# Altium footprint library AMP Footprints.PcbLib: 903 footprints (part 43 of 58)
Each footprint in its own frame and in the unit in brackets; x right, y up, seen from the top. Pads: shape width x height; smd on the part's side, far side on the other; paste and mask are expansions set on the pad; w line width, h text height; cw(c..) or ccw(c..) is an arc to the next point about the centre after c.
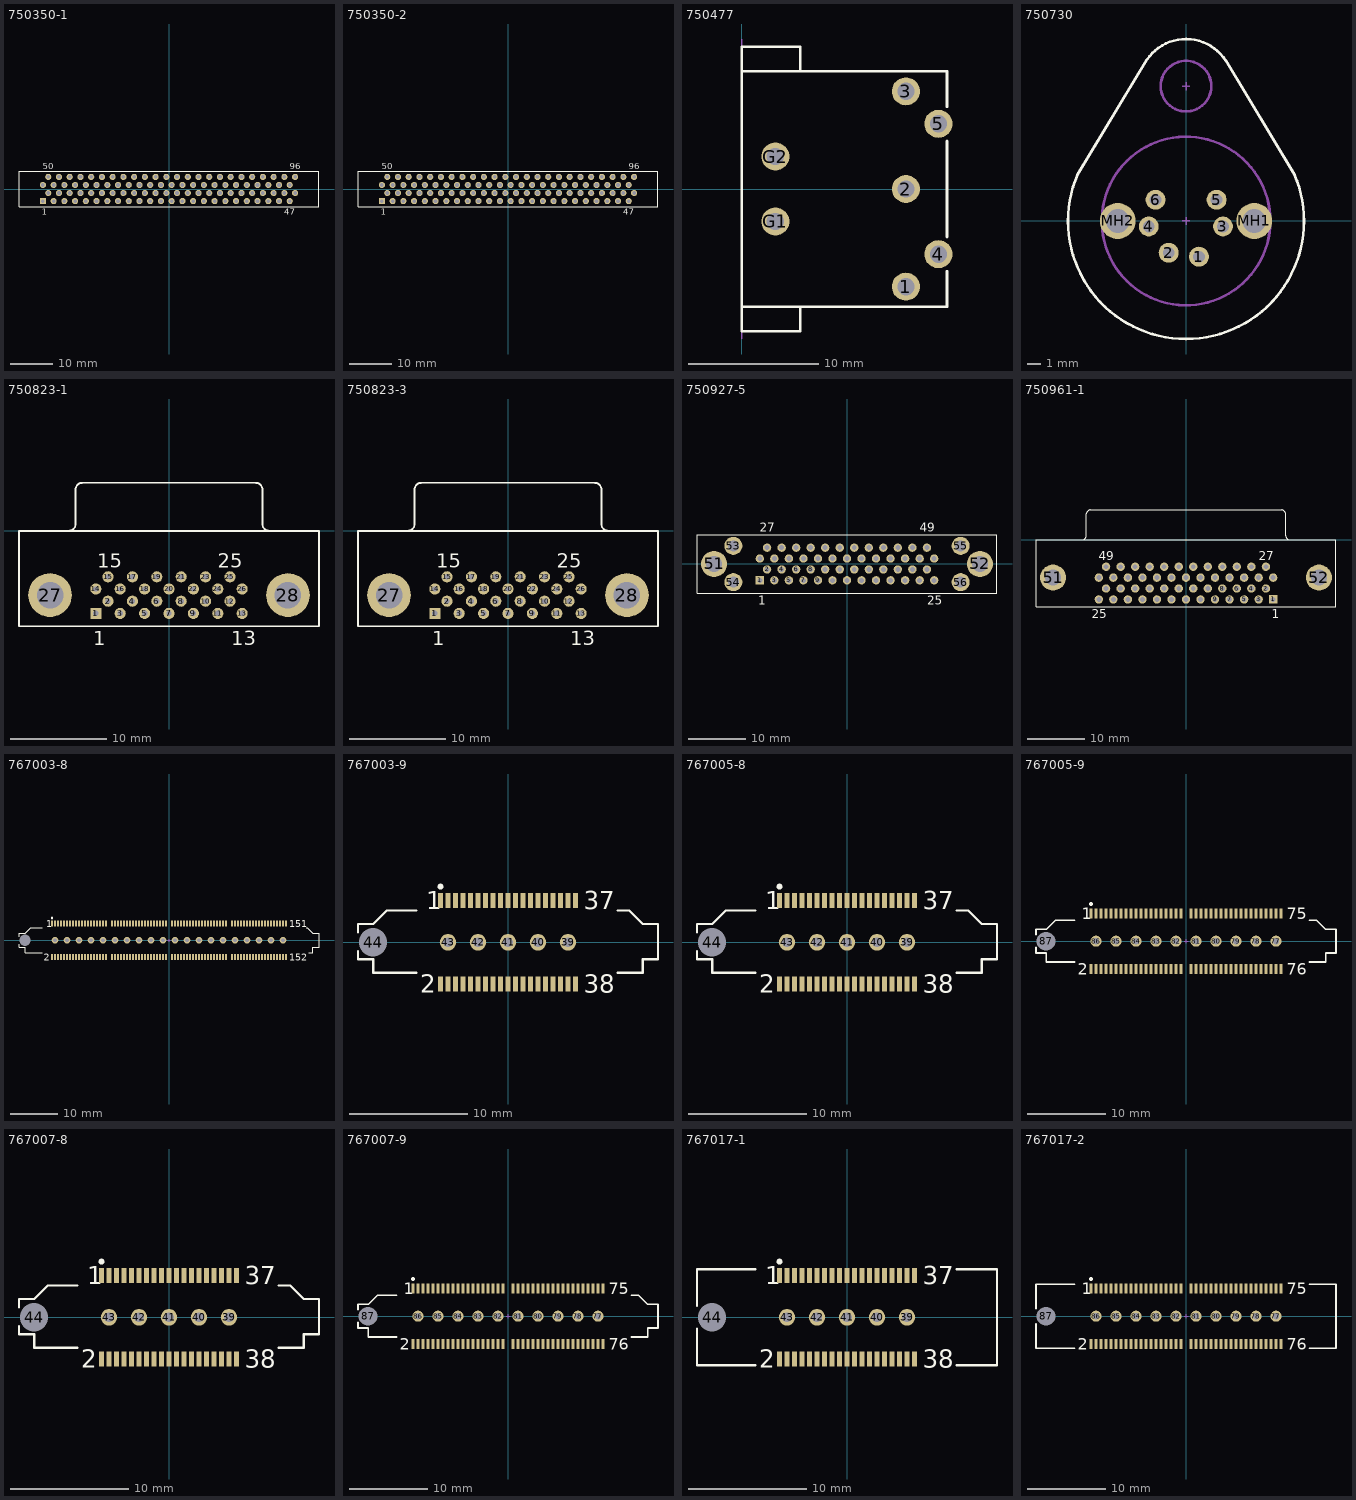
[diagram p42: the footprints below, top view; thin cyan lines are the x and y axes]

## 750350-1 [mm] "Connector; D Subminiature 050 Series; 96 Position; Vertical"
height 14.58
pads (96):
  rect 1.46x1.46 hole 0.86: 1(-29.845,-2.857)
  round 1.46 hole 0.86: 2(-28.575,-0.953) 3(-27.305,-2.857) 4(-26.035,-0.953) 5(-24.765,-2.857) 6(-23.495,-0.953) 7(-22.225,-2.857) 8(-20.955,-0.953) 9(-19.685,-2.857) 10(-18.415,-0.953) 11(-17.145,-2.857) 12(-15.875,-0.953) 13(-14.605,-2.857) 14(-13.335,-0.953) 15(-12.065,-2.857) 16(-10.795,-0.953) 17(-9.525,-2.857) 18(-8.255,-0.953) 19(-6.985,-2.857) 20(-5.715,-0.953) 21(-4.445,-2.857) 22(-3.175,-0.953) 23(-1.905,-2.857) 24(-0.635,-0.953) 25(0.635,-2.857) 26(1.905,-0.953) 27(3.175,-2.857) 28(4.445,-0.953) 29(5.715,-2.857) 30(6.985,-0.953) 31(8.255,-2.857) 32(9.525,-0.953) 33(10.795,-2.857) 34(12.065,-0.953) 35(13.335,-2.857) 36(14.605,-0.953) 37(15.875,-2.857) 38(17.145,-0.953) 39(18.415,-2.857) 40(19.685,-0.953) 41(20.955,-2.857) 42(22.225,-0.953) 43(23.495,-2.857) 44(24.765,-0.953) 45(26.035,-2.857) 46(27.305,-0.953) 47(28.575,-2.857) 48(29.845,-0.953) 49(-29.845,0.953) 50(-28.575,2.857) 51(-27.305,0.953) 52(-26.035,2.857) 53(-24.765,0.953) 54(-23.495,2.857) 55(-22.225,0.953) 56(-20.955,2.857) 57(-19.685,0.953) 58(-18.415,2.857) 59(-17.145,0.953) 60(-15.875,2.857) 61(-14.605,0.953) 62(-13.335,2.857) 63(-12.065,0.953) 64(-10.795,2.857) 65(-9.525,0.953) 66(-8.255,2.857) 67(-6.985,0.953) 68(-5.715,2.857) 69(-4.445,0.953) 70(-3.175,2.857) 71(-1.905,0.953) 72(-0.635,2.857) 73(0.635,0.953) 74(1.905,2.857) 75(3.175,0.953) 76(4.445,2.857) 77(5.715,0.953) 78(6.985,2.857) 79(8.255,0.953) 80(9.525,2.857) 81(10.795,0.953) 82(12.065,2.857) 83(13.335,0.953) 84(14.605,2.857) 85(15.875,0.953) 86(17.145,2.857) 87(18.415,0.953) 88(19.685,2.857) 89(20.955,0.953) 90(22.225,2.857) 91(23.495,0.953) 92(24.765,2.857) 93(26.035,0.953) 94(27.305,2.857) 95(28.575,0.953) 96(29.845,2.857)
Top Overlay:
  lines w0.2: -35.5,-4.157 35.5,-4.157 35.5,4.157 -35.5,4.157 -35.5,-4.157
  text "47" at 27.325,-6.132 h1.5
  text "50" at -29.825,4.633 h1.5
  text "96" at 28.595,4.633 h1.5
  text "1" at -30.095,-6.132 h1.5

## 750350-2 [mm] "Connector; D Subminiature 050 Series; 96 Position; Vertical"
height 14.58
pads (96):
  rect 1.46x1.46 hole 0.86: 1(-29.845,-2.857)
  round 1.46 hole 0.86: 2(-28.575,-0.953) 3(-27.305,-2.857) 4(-26.035,-0.953) 5(-24.765,-2.857) 6(-23.495,-0.953) 7(-22.225,-2.857) 8(-20.955,-0.953) 9(-19.685,-2.857) 10(-18.415,-0.953) 11(-17.145,-2.857) 12(-15.875,-0.953) 13(-14.605,-2.857) 14(-13.335,-0.953) 15(-12.065,-2.857) 16(-10.795,-0.953) 17(-9.525,-2.857) 18(-8.255,-0.953) 19(-6.985,-2.857) 20(-5.715,-0.953) 21(-4.445,-2.857) 22(-3.175,-0.953) 23(-1.905,-2.857) 24(-0.635,-0.953) 25(0.635,-2.857) 26(1.905,-0.953) 27(3.175,-2.857) 28(4.445,-0.953) 29(5.715,-2.857) 30(6.985,-0.953) 31(8.255,-2.857) 32(9.525,-0.953) 33(10.795,-2.857) 34(12.065,-0.953) 35(13.335,-2.857) 36(14.605,-0.953) 37(15.875,-2.857) 38(17.145,-0.953) 39(18.415,-2.857) 40(19.685,-0.953) 41(20.955,-2.857) 42(22.225,-0.953) 43(23.495,-2.857) 44(24.765,-0.953) 45(26.035,-2.857) 46(27.305,-0.953) 47(28.575,-2.857) 48(29.845,-0.953) 49(-29.845,0.953) 50(-28.575,2.857) 51(-27.305,0.953) 52(-26.035,2.857) 53(-24.765,0.953) 54(-23.495,2.857) 55(-22.225,0.953) 56(-20.955,2.857) 57(-19.685,0.953) 58(-18.415,2.857) 59(-17.145,0.953) 60(-15.875,2.857) 61(-14.605,0.953) 62(-13.335,2.857) 63(-12.065,0.953) 64(-10.795,2.857) 65(-9.525,0.953) 66(-8.255,2.857) 67(-6.985,0.953) 68(-5.715,2.857) 69(-4.445,0.953) 70(-3.175,2.857) 71(-1.905,0.953) 72(-0.635,2.857) 73(0.635,0.953) 74(1.905,2.857) 75(3.175,0.953) 76(4.445,2.857) 77(5.715,0.953) 78(6.985,2.857) 79(8.255,0.953) 80(9.525,2.857) 81(10.795,0.953) 82(12.065,2.857) 83(13.335,0.953) 84(14.605,2.857) 85(15.875,0.953) 86(17.145,2.857) 87(18.415,0.953) 88(19.685,2.857) 89(20.955,0.953) 90(22.225,2.857) 91(23.495,0.953) 92(24.765,2.857) 93(26.035,0.953) 94(27.305,2.857) 95(28.575,0.953) 96(29.845,2.857)
Top Overlay:
  lines w0.2: -35.5,-4.157 35.5,-4.157 35.5,4.157 -35.5,4.157 -35.5,-4.157
  text "47" at 27.325,-6.132 h1.5
  text "50" at -29.825,4.633 h1.5
  text "96" at 28.595,4.633 h1.5
  text "1" at -30.095,-6.132 h1.5

## 750477 [mm] "Connector; Circular DIN, Thru-Hole; 5 Position; Right Angle; Pitch 2.49/2.51 mm; Body 18.03 x 15.75 x 20.83 mm (WxTxH), Shielded, Front panel grounding fingers"
height 20.83
pads (7):
  round 2.15 hole 1.32: 1(12.6,-7.49) 2(12.6,0) 3(12.6,7.49) 4(15.09,-5) 5(15.09,5) G1(2.59,-2.49) G2(2.59,2.49)
Top Overlay:
  lines w0.2: 4.5,-9.015 4.5,-10.92 0,-10.92 0,-9.015 ; 4.5,9.015 4.5,10.92 0,10.92 0,9.015 ; 15.75,-6.32 15.75,-9.015 0,-9.015 ; 15.75,-3.68 15.75,3.68 ; 15.75,6.32 15.75,9.015 0,9.015 ; 0,-9.015 0,9.015
Mechanical 1:
  lines w0.1: 0,-11.5 0,11.5
  text "PCB Edge" at 0.6,-8.6 h0.25

## 750730 [mm] "Connector; Circular DIN, Thru-Hole; 6 Position; Vertical; Diameter 17.78 mm, Shielded, Front panel grounding, Front panel screw-down, Special PCB Retention"
height 9.52
pads (8):
  round 1.5 hole 0.89: 1(0.975,-2.69) 2(-1.305,-2.39) 3(2.785,-0.41) 4(-2.805,-0.41) 5(2.305,1.6) 6(-2.295,1.6)
  round 2.7 hole 1.78: MH1(5.145,0) MH2(-5.145,0)
Top Overlay:
  lines w0.2: -8.184,3.467 -2.947,12.151 ; -8.165,3.516 ccw(c0,0) 8.167,3.513 ; -2.947,12.139 cw(c0,10.16) 2.982,12.087 ; 2.982,12.099 8.183,3.468
Mechanical 1:
  circle w0.2: c0,0 r6.35
  circle w0.2: c0,10.16 r1.905
  lines w0.1: -0.3,0 0.3,0 ; -0.3,10.16 0.3,10.16 ; 0,-0.3 0,0.3 ; 0,9.86 0,10.46
  text "Panel Cut-out" at -2.4,3.8 h0.5
  text "Recommended" at -2.4,4.7 h0.5

## 750823-1 [mm] "Connector; D Subminiature 050 Series; 26 Position; Right Angle"
height 8.56
pads (28):
  rect 1.16x1.16 hole 0.56: 1(-7.62,-8.59)
  round 1.16 hole 0.56: 2(-6.35,-7.32) 3(-5.08,-8.59) 4(-3.81,-7.32) 5(-2.54,-8.59) 6(-1.27,-7.32) 7(0,-8.59) 8(1.27,-7.32) 9(2.54,-8.59) 10(3.81,-7.32) 11(5.08,-8.59) 12(6.35,-7.32) 13(7.62,-8.59) 14(-7.62,-6.05) 15(-6.35,-4.78) 16(-5.08,-6.05) 17(-3.81,-4.78) 18(-2.54,-6.05) 19(-1.27,-4.78) 20(0,-6.05) 21(1.27,-4.78) 22(2.54,-6.05) 23(3.81,-4.78) 24(5.08,-6.05) 25(6.35,-4.78) 26(7.62,-6.05)
  round 4.55 hole 2.77: 27(-12.385,-6.685) 28(12.385,-6.685)
Top Overlay:
  lines w0.2: -10.425,0.015 ccw(c-10.425,0.71) -9.73,0.71 -9.73,4.31 cw(c-9.035,4.31) -9.035,5.005 ; -9.035,5.01 9.035,5.01 ; 9.035,5.005 cw(c9.035,4.31) 9.73,4.31 9.73,0.71 ccw(c10.425,0.71) 10.425,0.015 ; -15.62,-9.93 -15.62,0 15.62,0 15.62,-9.93 -15.62,-9.93
  text "1" at -7.87,-11.905 h1.5
  text "13" at 6.495,-11.905 h1.5
  text "15" at -7.475,-3.825 h1.5
  text "25" at 5.1,-3.825 h1.5

## 750823-3 [mm] "Connector; D Subminiature 050 Series; 26 Position; Right Angle"
height 8.56
pads (28):
  rect 1.16x1.16 hole 0.56: 1(-7.62,-8.59)
  round 1.16 hole 0.56: 2(-6.35,-7.32) 3(-5.08,-8.59) 4(-3.81,-7.32) 5(-2.54,-8.59) 6(-1.27,-7.32) 7(0,-8.59) 8(1.27,-7.32) 9(2.54,-8.59) 10(3.81,-7.32) 11(5.08,-8.59) 12(6.35,-7.32) 13(7.62,-8.59) 14(-7.62,-6.05) 15(-6.35,-4.78) 16(-5.08,-6.05) 17(-3.81,-4.78) 18(-2.54,-6.05) 19(-1.27,-4.78) 20(0,-6.05) 21(1.27,-4.78) 22(2.54,-6.05) 23(3.81,-4.78) 24(5.08,-6.05) 25(6.35,-4.78) 26(7.62,-6.05)
  round 4.55 hole 2.77: 27(-12.385,-6.685) 28(12.385,-6.685)
Top Overlay:
  lines w0.2: -10.425,0.015 ccw(c-10.425,0.71) -9.73,0.71 -9.73,4.31 cw(c-9.035,4.31) -9.035,5.005 ; -9.035,5.01 9.035,5.01 ; 9.035,5.005 cw(c9.035,4.31) 9.73,4.31 9.73,0.71 ccw(c10.425,0.71) 10.425,0.015 ; -15.62,-9.93 -15.62,0 15.62,0 15.62,-9.93 -15.62,-9.93
  text "1" at -7.87,-11.905 h1.5
  text "13" at 6.495,-11.905 h1.5
  text "15" at -7.475,-3.825 h1.5
  text "25" at 5.1,-3.825 h1.5

## 750927-5 [mm] "Connector; D Subminiature 050 Series; 50 Position; Vertical"
height 8.24
pads (56):
  rect 1.46x1.46 hole 0.86: 1(-15.24,-2.857)
  round 1.46 hole 0.86: 2(-13.97,-0.953) 3(-12.7,-2.857) 4(-11.43,-0.953) 5(-10.16,-2.857) 6(-8.89,-0.953) 7(-7.62,-2.857) 8(-6.35,-0.953) 9(-5.08,-2.857) 10(-3.81,-0.953) 11(-2.54,-2.857) 12(-1.27,-0.953) 13(0,-2.857) 14(1.27,-0.953) 15(2.54,-2.857) 16(3.81,-0.953) 17(5.08,-2.857) 18(6.35,-0.953) 19(7.62,-2.857) 20(8.89,-0.953) 21(10.16,-2.857) 22(11.43,-0.953) 23(12.7,-2.857) 24(13.97,-0.953) 25(15.24,-2.857) 26(-15.24,0.953) 27(-13.97,2.857) 28(-12.7,0.953) 29(-11.43,2.857) 30(-10.16,0.953) 31(-8.89,2.857) 32(-7.62,0.953) 33(-6.35,2.857) 34(-5.08,0.953) 35(-3.81,2.857) 36(-2.54,0.953) 37(-1.27,2.857) 38(0,0.953) 39(1.27,2.857) 40(2.54,0.953) 41(3.81,2.857) 42(5.08,0.953) 43(6.35,2.857) 44(7.62,0.953) 45(8.89,2.857) 46(10.16,0.953) 47(11.43,2.857) 48(12.7,0.953) 49(13.97,2.857) 50(15.24,0.953)
  round 4.55 hole 2.77: 51(-23.24,0) 52(23.24,0)
  round 3.15 hole 1.9: 53(-19.875,3.175) 54(-19.875,-3.175) 55(19.875,3.175) 56(19.875,-3.175)
Top Overlay:
  lines w0.2: -26.225,-5.155 -26.225,5.155 26.225,5.155 26.225,-5.155 -26.225,-5.155
  text "27" at -15.22,5.63 h1.5
  text "49" at 12.72,5.63 h1.5
  text "25" at 13.99,-7.13 h1.5
  text "1" at -15.49,-7.13 h1.5

## 750961-1 [mm] "Connector; D Subminiature 050 Series; 50 Position; Right Angle"
height 10.44
pads (52):
  rect 1.46x1.46 hole 0.86: 1(15.24,-10.46)
  round 1.46 hole 0.86: 2(13.97,-8.555) 3(12.7,-10.46) 4(11.43,-8.555) 5(10.16,-10.46) 6(8.89,-8.555) 7(7.62,-10.46) 8(6.35,-8.555) 9(5.08,-10.46) 10(3.81,-8.555) 11(2.54,-10.46) 12(1.27,-8.555) 13(0,-10.46) 14(-1.27,-8.555) 15(-2.54,-10.46) 16(-3.81,-8.555) 17(-5.08,-10.46) 18(-6.35,-8.555) 19(-7.62,-10.46) 20(-8.89,-8.555) 21(-10.16,-10.46) 22(-11.43,-8.555) 23(-12.7,-10.46) 24(-13.97,-8.555) 25(-15.24,-10.46) 26(15.24,-6.65) 27(13.97,-4.745) 28(12.7,-6.65) 29(11.43,-4.745) 30(10.16,-6.65) 31(8.89,-4.745) 32(7.62,-6.65) 33(6.35,-4.745) 34(5.08,-6.65) 35(3.81,-4.745) 36(2.54,-6.65) 37(1.27,-4.745) 38(0,-6.65) 39(-1.27,-4.745) 40(-2.54,-6.65) 41(-3.81,-4.745) 42(-5.08,-6.65) 43(-6.35,-4.745) 44(-7.62,-6.65) 45(-8.89,-4.745) 46(-10.16,-6.65) 47(-11.43,-4.745) 48(-12.7,-6.65) 49(-13.97,-4.745) 50(-15.24,-6.65)
  round 4.55 hole 2.77: 51(-23.24,-6.65) 52(23.24,-6.65)
Top Overlay:
  lines w0.2: -18.12,0 ccw(c-18.12,0.695) -17.425,0.695 -17.425,4.495 ; -17.42,4.5 cw(c-16.725,4.5) -16.725,5.195 16.725,5.195 cw(c16.725,4.5) 17.42,4.5 ; 17.425,4.495 17.425,0.695 ccw(c18.12,0.695) 18.12,0 ; -26.225,-11.76 26.225,-11.76 26.225,0 -26.225,0 -26.225,-11.76
  text "27" at 12.72,-3.64 h1.5
  text "49" at -15.22,-3.64 h1.5
  text "25" at -16.49,-13.735 h1.5
  text "1" at 14.99,-13.735 h1.5

## 767003-8 [mil] "Connector; High-Speed, Plug; 152 Position; Vertical"
height 435.83
pads (173):
  rect 17x50 smd: 1(-975,139) 2(-975,-139) 3(-950,139) 4(-950,-139) 5(-925,139) 6(-925,-139) 7(-900,139) 8(-900,-139) 9(-875,139) 10(-875,-139) 11(-850,139) 12(-850,-139) 13(-825,139) 14(-825,-139) 15(-800,139) 16(-800,-139) 17(-775,139) 18(-775,-139) 19(-750,139) 20(-750,-139) 21(-725,139) 22(-725,-139) 23(-700,139) 24(-700,-139) 25(-675,139) 26(-675,-139) 27(-650,139) 28(-650,-139) 29(-625,139) 30(-625,-139) 31(-600,139) 32(-600,-139) 33(-575,139) 34(-575,-139) 35(-550,139) 36(-550,-139) 37(-525,139) 38(-525,-139) 39(-475,139) 40(-475,-139) 41(-450,139) 42(-450,-139) 43(-425,139) 44(-425,-139) 45(-400,139) 46(-400,-139) 47(-375,139) 48(-375,-139) 49(-350,139) 50(-350,-139) 51(-325,139) 52(-325,-139) 53(-300,139) 54(-300,-139) 55(-275,139) 56(-275,-139) 57(-250,139) 58(-250,-139) 59(-225,139) 60(-225,-139) 61(-200,139) 62(-200,-139) 63(-175,139) 64(-175,-139) 65(-150,139) 66(-150,-139) 67(-125,139) 68(-125,-139) 69(-100,139) 70(-100,-139) 71(-75,139) 72(-75,-139) 73(-50,139) 74(-50,-139) 75(-25,139) 76(-25,-139) 77(25,139) 78(25,-139) 79(50,139) 80(50,-139) 81(75,139) 82(75,-139) 83(100,139) 84(100,-139) 85(125,139) 86(125,-139) 87(150,139) 88(150,-139) 89(175,139) 90(175,-139) 91(200,139) 92(200,-139) 93(225,139) 94(225,-139) 95(250,139) 96(250,-139) 97(275,139) 98(275,-139) 99(300,139) 100(300,-139) 101(325,139) 102(325,-139) 103(350,139) 104(350,-139) 105(375,139) 106(375,-139) 107(400,139) 108(400,-139) 109(425,139) 110(425,-139) 111(450,139) 112(450,-139) 113(475,139) 114(475,-139) 115(525,139) 116(525,-139) 117(550,139) 118(550,-139) 119(575,139) 120(575,-139) 121(600,139) 122(600,-139) 123(625,139) 124(625,-139) 125(650,139) 126(650,-139) 127(675,139) 128(675,-139) 129(700,139) 130(700,-139) 131(725,139) 132(725,-139) 133(750,139) 134(750,-139) 135(775,139) 136(775,-139) 137(800,139) 138(800,-139) 139(825,139) 140(825,-139) 141(850,139) 142(850,-139) 143(875,139) 144(875,-139) 145(900,139) 146(900,-139) 147(925,139) 148(925,-139) 149(950,139) 150(950,-139) 151(975,139) 152(975,-139)
  round 55.12 hole 32: 153(950,0) 154(850,0) 155(750,0) 156(650,0) 157(550,0) 158(450,0) 159(350,0) 160(250,0) 161(150,0) 162(50,0) 163(-50,0) 164(-150,0) 165(-250,0) 166(-350,0) 167(-450,0) 168(-550,0) 169(-650,0) 170(-750,0) 171(-850,0) 172(-950,0)
  round 82.19 hole 94 unplated: 173(-1200,0)
Top Overlay:
  circle w9.84: c-975,185.65 r4.92
  lines w7.87: -1250,-31.32 -1250,-59 -1199,-59 -1199,-104 -1056.32,-104 ; -1250,31.32 -1250,59 -1199,59 -1154,104 -1056.32,104 ; 1144.87,104 1154,104 1199,59 1250,59 1250,-59 1199,-59 1199,-104 1164.55,-104
  text "151" at 1002.56,109.47 h59.06
  text "152" at 1002.56,-168.53 h59.06
  text "2" at -1041.93,-168.53 h59.06
  text "1" at -1022.24,109.47 h59.06
Mechanical 1:
  lines w3.94: -10,0 10,0 ; 0,-10 0,10

## 767003-9 [mil] "Connector; High-Speed, Plug; 38 Position; Vertical"
height 435.83
pads (44):
  rect 17x50 smd: 1(-225,139) 2(-225,-139) 3(-200,139) 4(-200,-139) 5(-175,139) 6(-175,-139) 7(-150,139) 8(-150,-139) 9(-125,139) 10(-125,-139) 11(-100,139) 12(-100,-139) 13(-75,139) 14(-75,-139) 15(-50,139) 16(-50,-139) 17(-25,139) 18(-25,-139) 19(0,139) 20(0,-139) 21(25,139) 22(25,-139) 23(50,139) 24(50,-139) 25(75,139) 26(75,-139) 27(100,139) 28(100,-139) 29(125,139) 30(125,-139) 31(150,139) 32(150,-139) 33(175,139) 34(175,-139) 35(200,139) 36(200,-139) 37(225,139) 38(225,-139)
  round 55.12 hole 32: 39(200,0) 40(100,0) 41(0,0) 42(-100,0) 43(-200,0)
  round 82.19 hole 94 unplated: 44(-450,0)
Top Overlay:
  circle w9.84: c-225,185.65 r4.92
  lines w7.87: -500,-29.2 -500,-56.88 -449,-56.88 -449,-101.88 -306.32,-101.88 ; -500,33.43 -500,61.12 -449,61.12 -404,106.12 -306.32,106.12 ; 365.36,-101.88 449,-101.88 449,-56.88 500,-56.88 500,61.12 449,61.12 404,106.12 365.36,106.12
  text "38" at 252.56,-168.53 h59.06
  text "37" at 252.56,109.47 h59.06
  text "2" at -291.93,-168.53 h59.06
  text "1" at -272.24,109.47 h59.06

## 767005-8 [mil] "Connector; High-Speed, Plug; 38 Position; Vertical"
height 501.18
pads (44):
  rect 17x50 smd: 1(-225,139) 2(-225,-139) 3(-200,139) 4(-200,-139) 5(-175,139) 6(-175,-139) 7(-150,139) 8(-150,-139) 9(-125,139) 10(-125,-139) 11(-100,139) 12(-100,-139) 13(-75,139) 14(-75,-139) 15(-50,139) 16(-50,-139) 17(-25,139) 18(-25,-139) 19(0,139) 20(0,-139) 21(25,139) 22(25,-139) 23(50,139) 24(50,-139) 25(75,139) 26(75,-139) 27(100,139) 28(100,-139) 29(125,139) 30(125,-139) 31(150,139) 32(150,-139) 33(175,139) 34(175,-139) 35(200,139) 36(200,-139) 37(225,139) 38(225,-139)
  round 55.12 hole 32: 39(200,0) 40(100,0) 41(0,0) 42(-100,0) 43(-200,0)
  round 82.19 hole 94 unplated: 44(-450,0)
Top Overlay:
  circle w9.84: c-225,185.65 r4.92
  lines w7.87: -500,-29.2 -500,-56.88 -449,-56.88 -449,-101.88 -306.32,-101.88 ; -500,33.43 -500,61.12 -449,61.12 -404,106.12 -306.32,106.12 ; 365.36,-101.88 449,-101.88 449,-56.88 500,-56.88 500,61.12 449,61.12 404,106.12 365.36,106.12
  text "1" at -272.24,109.47 h59.06
  text "2" at -291.93,-168.53 h59.06
  text "37" at 252.56,109.47 h59.06
  text "38" at 252.56,-168.53 h59.06

## 767005-9 [mil] "Connector; High-Speed, Plug; 76 Position; Vertical"
height 501.18
pads (87):
  rect 17x50 smd: 1(-475,139) 2(-475,-139) 3(-450,139) 4(-450,-139) 5(-425,139) 6(-425,-139) 7(-400,139) 8(-400,-139) 9(-375,139) 10(-375,-139) 11(-350,139) 12(-350,-139) 13(-325,139) 14(-325,-139) 15(-300,139) 16(-300,-139) 17(-275,139) 18(-275,-139) 19(-250,139) 20(-250,-139) 21(-225,139) 22(-225,-139) 23(-200,139) 24(-200,-139) 25(-175,139) 26(-175,-139) 27(-150,139) 28(-150,-139) 29(-125,139) 30(-125,-139) 31(-100,139) 32(-100,-139) 33(-75,139) 34(-75,-139) 35(-50,139) 36(-50,-139) 37(-25,139) 38(-25,-139) 39(25,139) 40(25,-139) 41(50,139) 42(50,-139) 43(75,139) 44(75,-139) 45(100,139) 46(100,-139) 47(125,139) 48(125,-139) 49(150,139) 50(150,-139) 51(175,139) 52(175,-139) 53(200,139) 54(200,-139) 55(225,139) 56(225,-139) 57(250,139) 58(250,-139) 59(275,139) 60(275,-139) 61(300,139) 62(300,-139) 63(325,139) 64(325,-139) 65(350,139) 66(350,-139) 67(375,139) 68(375,-139) 69(400,139) 70(400,-139) 71(425,139) 72(425,-139) 73(450,139) 74(450,-139) 75(475,139) 76(475,-139)
  round 55.12 hole 32: 77(450,0) 78(350,0) 79(250,0) 80(150,0) 81(50,0) 82(-50,0) 83(-150,0) 84(-250,0) 85(-350,0) 86(-450,0)
  round 82.19 hole 94 unplated: 87(-700,0)
Top Overlay:
  circle w9.84: c-475,185.65 r4.92
  lines w7.87: -750,-31.32 -750,-59 -699,-59 -699,-104 -556.32,-104 ; -750,31.32 -750,59 -699,59 -654,104 -556.32,104 ; 615.36,-104 699,-104 699,-59 750,-59 750,59 699,59 654,104 615.36,104
  text "1" at -522.24,109.47 h59.06
  text "2" at -541.93,-168.53 h59.06
  text "75" at 502.56,109.47 h59.06
  text "76" at 502.56,-168.53 h59.06
Mechanical 1:
  lines w3.94: -10,0 10,0 ; 0,-10 0,10

## 767007-8 [mil] "Connector; High-Speed, Plug; 38 Position; Vertical"
height 268.11
pads (44):
  rect 17x50 smd: 1(-225,139) 2(-225,-139) 3(-200,139) 4(-200,-139) 5(-175,139) 6(-175,-139) 7(-150,139) 8(-150,-139) 9(-125,139) 10(-125,-139) 11(-100,139) 12(-100,-139) 13(-75,139) 14(-75,-139) 15(-50,139) 16(-50,-139) 17(-25,139) 18(-25,-139) 19(0,139) 20(0,-139) 21(25,139) 22(25,-139) 23(50,139) 24(50,-139) 25(75,139) 26(75,-139) 27(100,139) 28(100,-139) 29(125,139) 30(125,-139) 31(150,139) 32(150,-139) 33(175,139) 34(175,-139) 35(200,139) 36(200,-139) 37(225,139) 38(225,-139)
  round 55.12 hole 32: 39(200,0) 40(100,0) 41(0,0) 42(-100,0) 43(-200,0)
  round 82.19 hole 94 unplated: 44(-450,0)
Top Overlay:
  circle w9.84: c-225,185.65 r4.92
  lines w7.87: -500,-29.2 -500,-56.88 -449,-56.88 -449,-101.88 -306.32,-101.88 ; -500,33.43 -500,61.12 -449,61.12 -404,106.12 -306.32,106.12 ; 365.36,-101.88 449,-101.88 449,-56.88 500,-56.88 500,61.12 449,61.12 404,106.12 365.36,106.12
  text "38" at 252.56,-168.53 h59.06
  text "37" at 252.56,109.47 h59.06
  text "2" at -291.93,-168.53 h59.06
  text "1" at -272.24,109.47 h59.06

## 767007-9 [mil] "Connector; High-Speed, Plug; 76 Position; Vertical"
height 268.11
pads (87):
  rect 17x50 smd: 1(-475,139) 2(-475,-139) 3(-450,139) 4(-450,-139) 5(-425,139) 6(-425,-139) 7(-400,139) 8(-400,-139) 9(-375,139) 10(-375,-139) 11(-350,139) 12(-350,-139) 13(-325,139) 14(-325,-139) 15(-300,139) 16(-300,-139) 17(-275,139) 18(-275,-139) 19(-250,139) 20(-250,-139) 21(-225,139) 22(-225,-139) 23(-200,139) 24(-200,-139) 25(-175,139) 26(-175,-139) 27(-150,139) 28(-150,-139) 29(-125,139) 30(-125,-139) 31(-100,139) 32(-100,-139) 33(-75,139) 34(-75,-139) 35(-50,139) 36(-50,-139) 37(-25,139) 38(-25,-139) 39(25,139) 40(25,-139) 41(50,139) 42(50,-139) 43(75,139) 44(75,-139) 45(100,139) 46(100,-139) 47(125,139) 48(125,-139) 49(150,139) 50(150,-139) 51(175,139) 52(175,-139) 53(200,139) 54(200,-139) 55(225,139) 56(225,-139) 57(250,139) 58(250,-139) 59(275,139) 60(275,-139) 61(300,139) 62(300,-139) 63(325,139) 64(325,-139) 65(350,139) 66(350,-139) 67(375,139) 68(375,-139) 69(400,139) 70(400,-139) 71(425,139) 72(425,-139) 73(450,139) 74(450,-139) 75(475,139) 76(475,-139)
  round 55.12 hole 32: 77(450,0) 78(350,0) 79(250,0) 80(150,0) 81(50,0) 82(-50,0) 83(-150,0) 84(-250,0) 85(-350,0) 86(-450,0)
  round 82.19 hole 94 unplated: 87(-700,0)
Top Overlay:
  circle w9.84: c-475,185.65 r4.92
  lines w7.87: -750,-31.32 -750,-59 -699,-59 -699,-104 -556.32,-104 ; -750,31.32 -750,59 -699,59 -654,104 -556.32,104 ; 615.36,-104 699,-104 699,-59 750,-59 750,59 699,59 654,104 615.36,104
  text "1" at -522.24,109.47 h59.06
  text "2" at -541.93,-168.53 h59.06
  text "75" at 502.56,109.47 h59.06
  text "76" at 502.56,-168.53 h59.06
Mechanical 1:
  lines w3.94: -10,0 10,0 ; 0,-10 0,10

## 767017-1 [mil] "Connector; High-Speed, Plug; 38 Position; Vertical"
height 903.15
pads (44):
  rect 17x50 smd: 1(-225,139) 2(-225,-139) 3(-200,139) 4(-200,-139) 5(-175,139) 6(-175,-139) 7(-150,139) 8(-150,-139) 9(-125,139) 10(-125,-139) 11(-100,139) 12(-100,-139) 13(-75,139) 14(-75,-139) 15(-50,139) 16(-50,-139) 17(-25,139) 18(-25,-139) 19(0,139) 20(0,-139) 21(25,139) 22(25,-139) 23(50,139) 24(50,-139) 25(75,139) 26(75,-139) 27(100,139) 28(100,-139) 29(125,139) 30(125,-139) 31(150,139) 32(150,-139) 33(175,139) 34(175,-139) 35(200,139) 36(200,-139) 37(225,139) 38(225,-139)
  round 55.12 hole 32: 39(200,0) 40(100,0) 41(0,0) 42(-100,0) 43(-200,0)
  round 82.19 hole 94 unplated: 44(-450,0)
Top Overlay:
  circle w9.84: c-225,185.65 r4.92
  lines w7.87: -500,-37.91 -500,-160 -306.32,-160 ; -500,37.91 -500,160 -306.32,160 ; 365.36,-160 500,-160 500,160 365.36,160
  text "2" at -291.93,-168.53 h59.06
  text "1" at -272.24,109.47 h59.06
  text "37" at 252.56,109.47 h59.06
  text "38" at 252.56,-168.53 h59.06

## 767017-2 [mil] "Connector; High-Speed, Plug; 76 Position; Vertical"
height 903.15
pads (87):
  rect 17x50 smd: 1(-475,139) 2(-475,-139) 3(-450,139) 4(-450,-139) 5(-425,139) 6(-425,-139) 7(-400,139) 8(-400,-139) 9(-375,139) 10(-375,-139) 11(-350,139) 12(-350,-139) 13(-325,139) 14(-325,-139) 15(-300,139) 16(-300,-139) 17(-275,139) 18(-275,-139) 19(-250,139) 20(-250,-139) 21(-225,139) 22(-225,-139) 23(-200,139) 24(-200,-139) 25(-175,139) 26(-175,-139) 27(-150,139) 28(-150,-139) 29(-125,139) 30(-125,-139) 31(-100,139) 32(-100,-139) 33(-75,139) 34(-75,-139) 35(-50,139) 36(-50,-139) 37(-25,139) 38(-25,-139) 39(25,139) 40(25,-139) 41(50,139) 42(50,-139) 43(75,139) 44(75,-139) 45(100,139) 46(100,-139) 47(125,139) 48(125,-139) 49(150,139) 50(150,-139) 51(175,139) 52(175,-139) 53(200,139) 54(200,-139) 55(225,139) 56(225,-139) 57(250,139) 58(250,-139) 59(275,139) 60(275,-139) 61(300,139) 62(300,-139) 63(325,139) 64(325,-139) 65(350,139) 66(350,-139) 67(375,139) 68(375,-139) 69(400,139) 70(400,-139) 71(425,139) 72(425,-139) 73(450,139) 74(450,-139) 75(475,139) 76(475,-139)
  round 55.12 hole 32: 77(450,0) 78(350,0) 79(250,0) 80(150,0) 81(50,0) 82(-50,0) 83(-150,0) 84(-250,0) 85(-350,0) 86(-450,0)
  round 82.19 hole 94 unplated: 87(-700,0)
Top Overlay:
  circle w9.84: c-475,185.65 r4.92
  lines w7.87: -750,-37.91 -750,-160 -556.32,-160 ; -750,37.91 -750,160 -556.32,160 ; 615.36,-160 750,-160 750,160 615.36,160
  text "76" at 502.56,-168.53 h59.06
  text "75" at 502.56,109.47 h59.06
  text "2" at -541.93,-168.53 h59.06
  text "1" at -522.24,109.47 h59.06
Mechanical 1:
  lines w3.94: -10,0 10,0 ; 0,-10 0,10